# Altium schematic symbol library SI2301CDS-T1-GE3.Schlib: 1 symbol
Pins are listed as number, name and electrical type; pins without a type are passive.

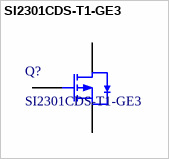
[diagram p0: symbol SI2301CDS-T1-GE3]

## SI2301CDS-T1-GE3
designator Q?
MOS(场效应管)
footprint SOT-23(SOT-23-3)
pins: 1 G, 2 S, 3 D